# Altium footprint library TO229P994X256-3N-1.PcbLib: 1 footprints
Each footprint in its own frame and in the unit in brackets; x right, y up, seen from the top. Pads: shape width x height; smd on the part's side, far side on the other; paste and mask are expansions set on the pad; w line width, h text height; cw(c..) or ccw(c..) is an arc to the next point about the centre after c.
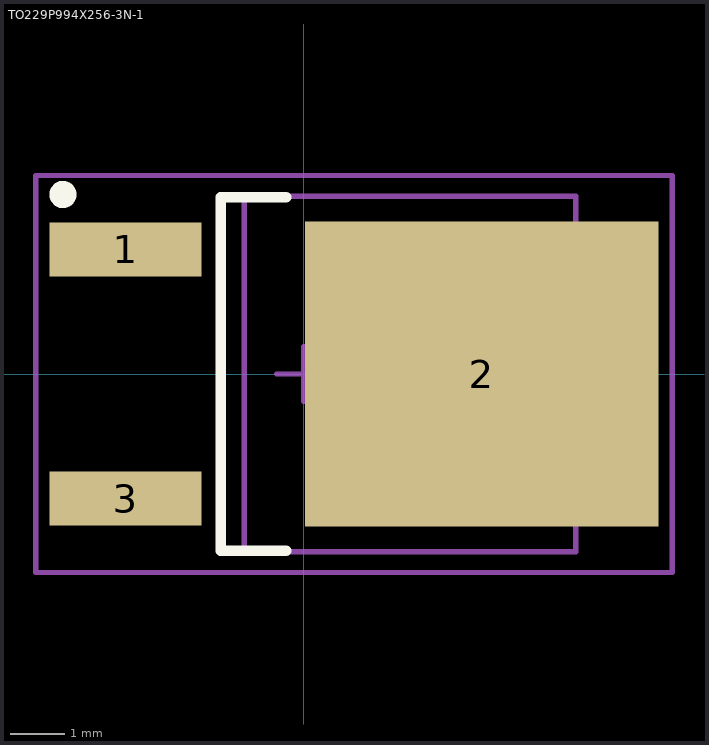
[diagram p0: the footprint, top view; thin cyan lines are the x and y axes]

## TO229P994X256-3N-1 [mm] "TO,2.29mm pitch;2 pin,9.94mm L X 6.095mm W X 2.56mm H body"
height 2.56
pads (3):
  rect 2.8x1 smd paste+0 mask+0: 1(-3.275,2.29) 3(-3.275,-2.29)
  rect 6.5x5.6 smd paste+0 mask+0: 2(3.275,0)
Top Overlay:
  circle w0.25: c-4.425,3.3 r0.125
  lines w0.2: -0.325,-3.25 -1.525,-3.25 -1.525,3.25 -0.325,3.25
M3 (ASY_Text_Top):
  text ".DESIGNATOR" at 0,0 h1.2
M13 (CMP_Body_OTL_Top):
  lines w0.1: -1.09,-3.27 -1.09,3.27 5.005,3.27 5.005,-3.27 -1.09,-3.27
M15 (CMP_Courtyard_Top):
  lines w0.1: -0.5,0 0.5,0 ; 0,-0.5 0,0.5 ; -4.925,-3.65 6.775,-3.65 6.775,3.65 -4.925,3.65 -4.925,-3.65
3D body "PG-TO252-3-06.stp": height 2.43, standoff 0, extent -3.855,-3.27 6.085,3.27